# Altium footprint library capacitors_electrolytic.PcbLib: 1 footprints
Each footprint in its own frame and in the unit in brackets; x right, y up, seen from the top. Pads: shape width x height; smd on the part's side, far side on the other; paste and mask are expansions set on the pad; w line width, h text height; cw(c..) or ccw(c..) is an arc to the next point about the centre after c.
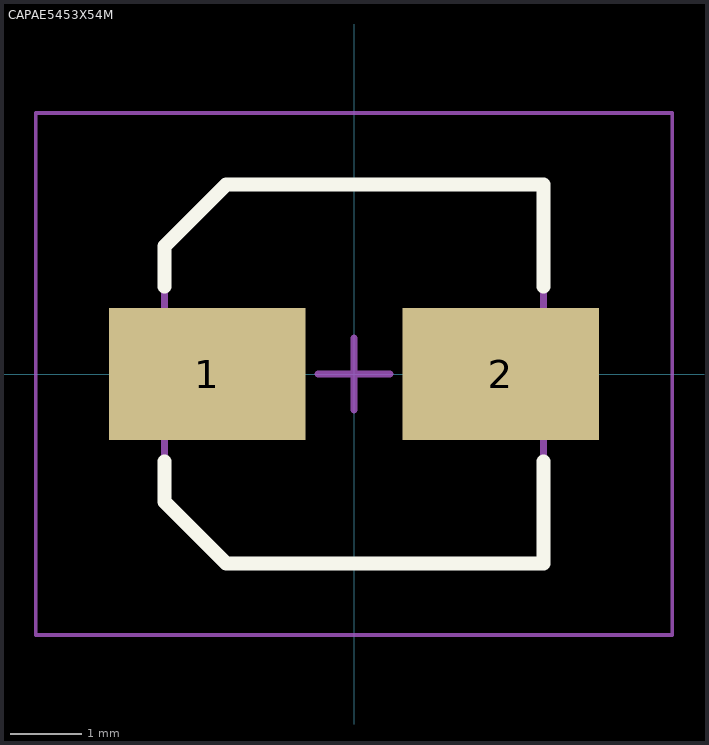
[diagram p0: the footprint, top view; thin cyan lines are the x and y axes]

## CAPAE5453X54M [mm] "Aluminum Electrolytic Capacitor, Body 5,30x5,30x5,40mm, IPC Low Density"
height 5.4
pads (2):
  rect 2.75x1.85 smd: 1(-2.05,0) 2(2.05,0)
Top Overlay:
  lines w0.2: -2.65,-1.225 -2.65,-1.787 -1.788,-2.65 2.65,-2.65 2.65,-1.225 ; -2.65,1.225 -2.65,1.787 -1.788,2.65 2.65,2.65 2.65,1.225
Mechanical 13:
  lines w0.1: -2.65,-1.787 -1.788,-2.65 2.65,-2.65 2.65,2.65 -1.788,2.65 -2.65,1.787 -2.65,-1.787
Mechanical 15:
  lines w0.05: -4.45,-3.65 -4.45,3.65 4.45,3.65 4.45,-3.65 -4.45,-3.65
  lines w0.1: -0.5,0 0.5,0 ; 0,-0.5 0,0.5
3D body "CAPAE5453X54M.step": height 5.4, standoff 0, extent -2.675,-2.65 2.675,2.65